# Altium footprint library Breakout.PcbLib: 7 footprints
Each footprint in its own frame and in the unit in brackets; x right, y up, seen from the top. Pads: shape width x height; smd on the part's side, far side on the other; paste and mask are expansions set on the pad; w line width, h text height; cw(c..) or ccw(c..) is an arc to the next point about the centre after c.
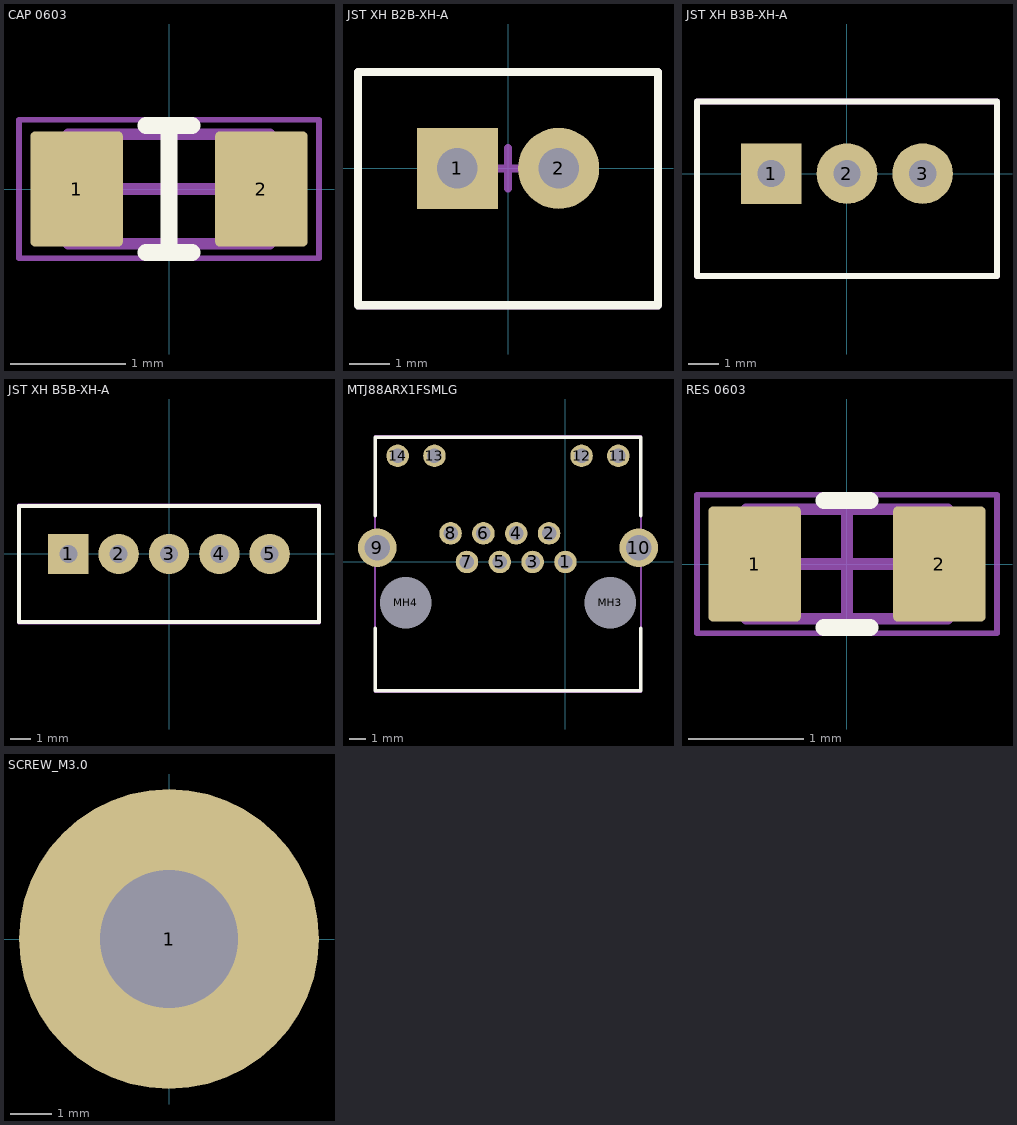
[diagram p0: the footprints below, top view; thin cyan lines are the x and y axes]

## CAP 0603 [mm] "Chip Resistor, 2-Leads, Body 1.60x0.80mm"
height 0.45
pads (2):
  rrect10% 0.8x1 smd: 1(-0.8,0) 2(0.8,0)
Top Overlay:
  lines w0.15: -0.2,-0.55 0.2,-0.55 ; -0.2,0.55 0.2,0.55 ; 0,-0.55 0,0.55
Mechanical 13:
  lines w0.1: -0.875,-0.475 0.875,-0.475 0.875,0.475 -0.875,0.475 -0.875,-0.475
Mechanical 15:
  lines w0.05: -1.3,-0.6 1.3,-0.6 1.3,0.6 -1.3,0.6 -1.3,-0.6
  lines w0.1: -0.475,0 0.475,0 ; 0,-0.475 0,0.475
3D body "0603 resistor.STEP": height 0.45, standoff 0, extent -0.8,-0.4 0.8,0.4

## JST XH B2B-XH-A [mm]
height 7
pads (2):
  rect 2x2 hole 1: 1(-1.25,0)
  round 2 hole 1: 2(1.25,0)
Top Overlay:
  lines w0.2: -3.7,-3.375 -3.7,2.375 3.7,2.375 3.7,-3.375 -3.7,-3.375
Mechanical 1:
  lines w0.2: -3.7,-3.375 3.7,-3.375 3.7,2.375 -3.7,2.375 -3.7,-3.375
Mechanical 15:
  lines w0.05: -3.683,-3.302 -3.683,2.413 3.683,2.413 3.683,-3.302 -3.683,-3.302
  lines w0.2: -0.5,0 0.5,0 ; 0,-0.5 0,0.5
Mechanical 20:
  lines w0.05: -3.683,-3.429 3.683,-3.429 3.683,2.413 -3.683,2.413 -3.683,-3.429
3D body "JST B2B-XH-A.STEP": height 7, standoff -3.4, extent -3.7,-3.375 3.7,2.375

## JST XH B3B-XH-A [mm]
height 7
pads (3):
  rect 2x2 hole 0.9: 1(-2.5,0)
  round 2 hole 0.9: 2(0,0) 3(2.5,0)
Top Overlay:
  lines w0.2: -4.95,-3.375 -4.95,2.375 4.95,2.375 4.95,-3.375 -4.95,-3.375
Mechanical 1:
  lines w0.2: -4.95,-3.375 4.95,-3.375 4.95,2.375 -4.95,2.375 -4.95,-3.375
Mechanical 15:
  lines w0.05: -4.953,-3.429 -4.953,2.413 4.953,2.413 4.953,-3.429 -4.953,-3.429
  lines w0.2: -0.5,0 0.5,0 ; 0,-0.5 0,0.5
Mechanical 20:
  lines w0.05: -4.953,-3.429 4.953,-3.429 4.953,2.413 -4.953,2.413 -4.953,-3.429
3D body "JST B3B-XH-A.STEP": height 7, standoff -3.4, extent -4.95,-3.375 4.95,2.375

## JST XH B5B-XH-A [mm]
height 7
pads (5):
  rect 2x2 hole 0.9: 1(-5,0)
  round 2 hole 0.9: 2(-2.5,0) 3(0,0) 4(2.5,0) 5(5,0)
Top Overlay:
  lines w0.2: -7.45,-3.375 -7.45,2.375 7.45,2.375 7.45,-3.375 -7.45,-3.375
Mechanical 1:
  lines w0.2: -7.45,-3.375 7.45,-3.375 7.45,2.375 -7.45,2.375 -7.45,-3.375
Mechanical 15:
  lines w0.2: -0.5,0 0.5,0 ; 0,-0.5 0,0.5 ; -7.45,-3.4 -7.45,2.4 7.45,2.4 7.45,-3.4 -7.45,-3.4
3D body "JST B5B-XH-A.STEP": height 7, standoff -3.4, extent -7.45,-3.375 7.45,2.375

## MTJ88ARX1FSMLG [mm]
pads (16):
  round 1.4 hole 0.9: 1(0,0) 2(-1.02,1.78) 3(-2.04,0) 4(-3.06,1.78) 5(-4.08,0) 6(-5.1,1.78) 7(-6.12,0) 8(-7.14,1.78) 11(3.29,6.6) 12(1,6.6) 13(-8.14,6.6) 14(-10.43,6.6)
  round 2.4 hole 1.6: 9(-11.695,0.89) 10(4.555,0.89)
  round 1.6 hole 3.2 unplated: MH3(2.78,-2.54) MH4(-9.92,-2.54)
Top Overlay:
  lines w0.2: -11.82,-4.125 -11.82,-8 4.68,-8 4.68,-4.125 ; -11.82,2.875 -11.82,7.75 4.68,7.75 4.68,2.875
Top Courtyard:
  lines w0.1: -11.85,-8.1 -11.85,7.85 4.7,7.85 4.7,-8.1 -11.85,-8.1
Mechanical 15:
  lines w0.1: -11.82,-8 -11.82,7.75 4.68,7.75 4.68,-8 -11.82,-8
Mechanical 20:
  lines w0.1: -11.85,-8.05 -11.85,7.85 4.7,7.85 4.7,-8.05 -11.85,-8.05

## RES 0603 [mm] "Chip Resistor, 2-Leads, Body 1.60x0.80mm"
height 0.45
pads (2):
  rrect10% 0.8x1 smd: 1(-0.8,0) 2(0.8,0)
Top Overlay:
  lines w0.15: -0.2,-0.55 0.2,-0.55 ; -0.2,0.55 0.2,0.55
Top Courtyard:
  lines w0.05: -1.3,-0.6 1.3,-0.6 1.3,0.6 -1.3,0.6 -1.3,-0.6
Mechanical 13:
  lines w0.1: -0.875,-0.475 0.875,-0.475 0.875,0.475 -0.875,0.475 -0.875,-0.475
Mechanical 15:
  lines w0.1: -0.475,0 0.475,0 ; 0,-0.475 0,0.475
Mechanical 20:
  lines w0.05: -1.3,-0.6 1.3,-0.6 1.3,0.6 -1.3,0.6 -1.3,-0.6
3D body "0603 resistor.STEP": height 0.45, standoff 0, extent -0.8,-0.4 0.8,0.4

## SCREW_M3.0 [mm] "M3 Screw Close FIt"
pads (1):
  round 7.2 hole 3.301: 1(0,0)